# EAGLE library part TEN40WI_SINGLE (library 000001)
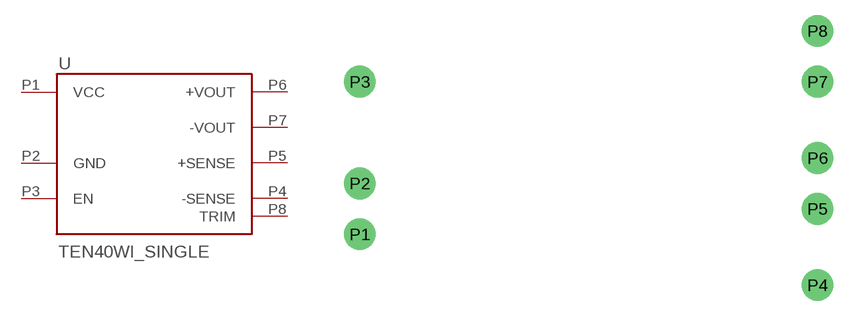
[diagram p88: symbol with the pads of TEN40; footprint TEN40]

Designator prefix -

## TEN40WI_SINGLE  [TEN40]
P1  VCC  pwr
P2  GND  pwr
P3  EN  in
P4  -SENSE  pwr
P5  +SENSE  pwr
P6  +VOUT  pwr
P7  -VOUT  pwr
P8  TRIM  pwr

## Footprint TEN40 (pad centres in mm)
drill 0.5 pad 3.175 round: P1 -22.86,-2.54; P2 -22.86,2.54; P3 -22.86,12.7; P4 22.86,-7.62; P5 22.86,0; P6 22.86,5.08; P7 22.86,12.7; P8 22.86,17.78